# EAGLE library part LSM6DS3 (library LSM6DS3)
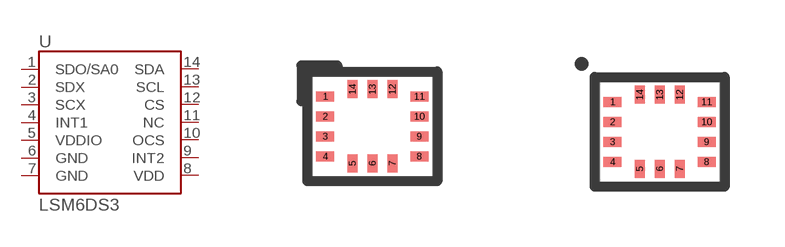
[diagram p0: symbol with the pads of LGA14L; footprints LGA14L, LGA14L_DOT_INDICATOR]

Designator prefix U

## LSM6DS3  [LGA14L]
1  SDO/SA0
2  SDX
3  SCX
4  INT1
5  VDDIO
6  GND
7  GND
8  VDD
9  INT2
10  OCS
11  NC
12  CS
13  SCL
14  SDA

## LSM6DS3DOT_INDICATION  [LGA14L_DOT_INDICATOR]
Pads as for LGA14L

## Footprint LGA14L (pad centres in mm)
Description: This is a datasheet dictated footprint for the LSM6DS3 in the LGA 14L package.
smd 0.45 x 0.25: 1 -1.175,0.75; 2 -1.175,0.25; 3 -1.175,-0.25; 4 -1.175,-0.75; 8 1.175,-0.75; 9 1.175,-0.25; 10 1.175,0.25; 11 1.175,0.75
smd 0.25 x 0.45: 5 -0.5,-0.925; 6 0,-0.925; 7 0.5,-0.925; 12 0.5,0.925; 13 0,0.925; 14 -0.5,0.925

## Footprint LGA14L_DOT_INDICATOR (pad centres in mm)
smd 0.45 x 0.25: 1 -1.175,0.75; 2 -1.175,0.25; 3 -1.175,-0.25; 4 -1.175,-0.75; 8 1.175,-0.75; 9 1.175,-0.25; 10 1.175,0.25; 11 1.175,0.75
smd 0.25 x 0.45: 5 -0.5,-0.925; 6 0,-0.925; 7 0.5,-0.925; 12 0.5,0.925; 13 0,0.925; 14 -0.5,0.925